# Altium schematic symbol library FM28V-TG.Schlib: 1 symbol
Pins are listed as number, name and electrical type; pins without a type are passive.

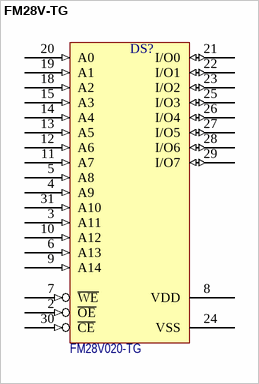
[diagram p0: symbol FM28V-TG]

## FM28V-TG
designator DS?  Наименование: FM28V020-TG  (hidden comment: FM28V-TG)
Bytewide Low Voltage FRAM Memory; Назначение: FRAM-память; Потребление, Вт: 0.05; ComponentLink1Description: DataSheet; ComponentLink1URL: https://www.cypress.com/file/136591/download
footprint TSOP-1-32 (Thin small outline package)
pins: 2 ~{OE} (in), 3 A11 (in), 4 A9 (in), 5 A8 (in), 6 A13 (in), 7 ~{WE} (in), 8 VDD (power), 9 A14 (in), 10 A12 (in), 11 A7 (in), 12 A6 (in), 13 A5 (in), 14 A4 (in), 15 A3 (in), 18 A2 (in), 19 A1 (in), 20 A0 (in), 21 I/O0 (io), 22 I/O1 (io), 23 I/O2 (io), 24 VSS (power), 25 I/O3 (io), 26 I/O4 (io), 27 I/O5 (io), 28 I/O6 (io), 29 I/O7 (io), 30 ~{CE} (in), 31 A10 (in)